# Altium schematic symbol library LC_EXT_S_lib.SchLib: 11 symbols
Pins are listed as number, name and electrical type; pins without a type are passive.

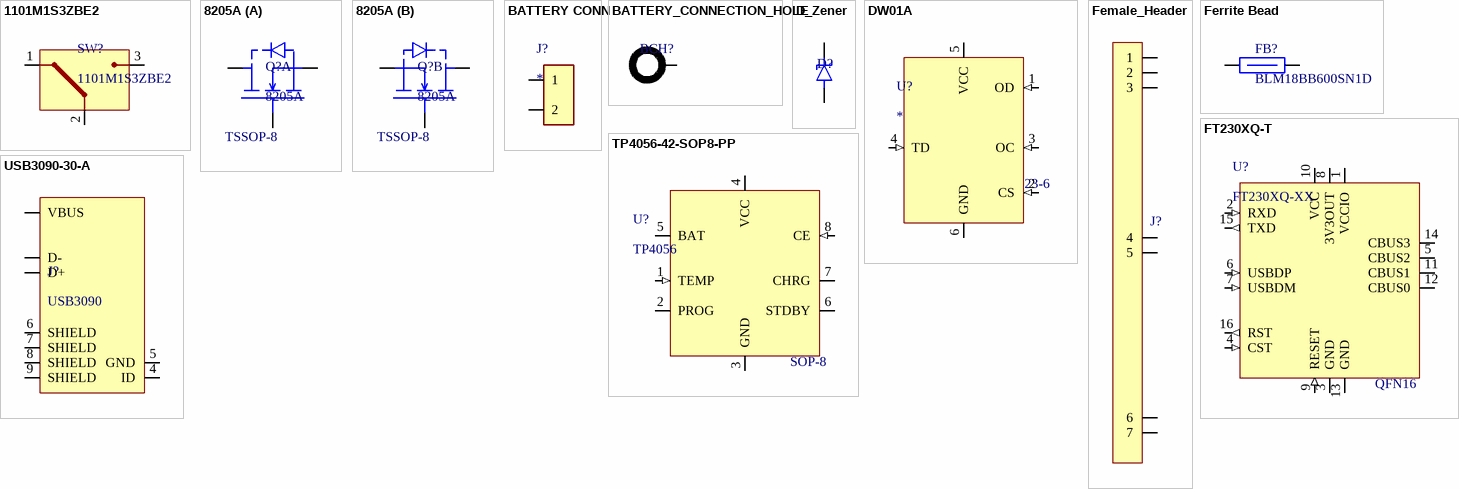
[diagram p0: symbols 1101M1S3ZBE2 to USB3090-30-A]

## 1101M1S3ZBE2
designator SW?
Switch: slide; Pos: 2; SPDT; 0.02A/20VAC; 0.02A/20VDC; ON-ON; 1000; HELP_URL: https://www.tme.eu/en/details/1101m1s3zbe2/slide-switches/c-k/; Datasheet: https://www.tme.eu/Document/db7738c833adf907315725e2b7045b58/1101M1S3CQE2.PDF
footprint 1101M1S3ZBE2 (Switch: slide)
pins: 1 5V, 2 COM, 3 BATT+

## 8205A
designator Q?  Package: TSSOP-8
Datasheet: https://datasheet.lcsc.com/lcsc/1810151911_Guangdong-Hottech-8205A_C181100.pdf
footprint TSOP65P610X120-8M (TSOP, 8-Leads, Body 3,00x4,40mm, Pitch 0,65mm, IPC Low Density)
part A pins: 1 D1, 2 S1, 4 G1
part B pins: 5 G2, 7 S2, 8 D2

## BATTERY CONN
designator J?
Standard battery connector for Li Ion battery
pins: 1, 2

## BATTERY_CONNECTION_HOLE
designator BCH?  (value not drawn)
Pin hole for battery connection
pins: 1

## D_Zener
designator D?, comment ESD5Z2.5T1G  (value not drawn)
ESD protection diode, 4V; Datasheet: https://www.onsemi.com/pdf/datasheet/esd5z2.5t1-d.pdf; Package: SOD−523; PN: ESD5Z2.5T1G
footprint SODFL160X60-2N (SODFL, 2-Leads, Body 0.80x1.60mm, IPC Medium Density)
pins: 1 C, 2 A

## DW01A
designator U?  Package: SOT-23-6
Battery protection IC, SOT-23-6, 4.3V± 50mV, -40°C ~ +85°C; Datasheet: https://hmsemi.com/downfile/DW01A.PDF
footprint SOT95P270X145-6M (SOT23, 6-Leads, Body 2.90x2.70mm, Pitch 0.95mm, IPC Low Density)
pins: 1 OD (in), 2 CS (in), 3 OC (in), 4 TD (in), 5 VCC, 6 GND

## Female_Header
designator J?, comment Female_Header x7  (value not drawn)
Header connectors x7 with 2.54 pitch
footprint Female Header (Female header connector x7 pins e=2.54)
pins: 1, 2, 3, 4, 5, 6, 7

## Ferrite Bead
designator FB?, comment BLM18BB600SN1D
Ferrite: bead; Imp.@ 100MHz: 60Ω; SMD; 0.55A; 0603; R: 0.25Ω; HELP_URL: https://www.tme.eu/en/details/blm18bb600sn1d/ferrite-beads/murata/; Datasheet: https://www.tme.eu/Document/8f5edfdc7dc6af1cef7fc1d27ee2b555/blm18bb750sn1d.pdf
footprint BEADC1608X95N
pins: 1, 2

## FT230XQ-T
designator U?, comment FT230XQ-XX  Package: QFN16
USB Interface IC USB to Basic Serial UART IC QFN-16; Datasheet: https://www.tme.eu/Document/93b0911297f91fbab90e758d2cc33bdf/DS_FT230X.pdf; Help_URL: https://www.tme.eu/pl/en/details/ft230xq-t/usb-interfaces-integrated-circuits/ftdi/
footprint QFN65P400X400X75_HS-17N (QFN, 16-Leads, Body 4.00x4.00mm, Pitch 0.65mm, Thermal Pad 2.08x2.08mm, IPC Medium Density)
pins: 1 VCCIO, 2 RXD (in), 3 GND, 4 CST (in), 5 CBUS2 (io), 6 USBDP (in), 7 USBDM (in), 8 3V3OUT, 9 RESET (in), 10 VCC, 11 CBUS1 (io), 12 CBUS0 (io), 13 GND, 14 CBUS3 (io), 15 TXD (out), 16 RST (out)

## TP4056-42-SOP8-PP
designator U?, comment TP4056  Package: SOP-8
1A Standalone Linear Li-lon Battery Charger with Thermal / Regulation; Datasheet: https://dlnmh9ip6v2uc.cloudfront.net/datasheets/Prototyping/TP4056.pdf
footprint SOP127P600X170-8N (SOP, 8-Leads, Body 5.50x4.40mm, Pitch 1.27mm, IPC Medium Density)
pins: 1 TEMP (in), 2 PROG, 3 GND, 4 VCC, 5 BAT, 6 STDBY, 7 CHRG, 8 CE (in)

## USB3090-30-A
designator J?, comment USB3090
USB Connectors Micro A/B Skt,Bottom-SMT, R/A, 30u No Peg, W/shell stake,T&R; HELP_URL: https://www.tme.eu/pl/en/details/usb3090-30-a/usb-ieee1394-connectors/global-connector-technology-gct/; Datasheet: https://www.tme.eu/Document/251c0827d93b07f0b8f9232981ec431f/USB3090-30-A.pdf
footprint USB3090-2888209 (USB Connectors Micro A/B Skt,Bottom-SMT, R/A, 30u No Peg, W/shell stake,T&R)
pins: 1 VBUS (power), 2 D- (io), 3 D+ (io), 4 ID, 5 GND, 6 SHIELD, 7 SHIELD, 8 SHIELD, 9 SHIELD